# EAGLE library part 692221030100 (library USB_Wuerth_Elektronik_eiCan_Communication_Connectors_STENCIL)
WR-COM USB 3.0 HORIZONTAL TYPE B
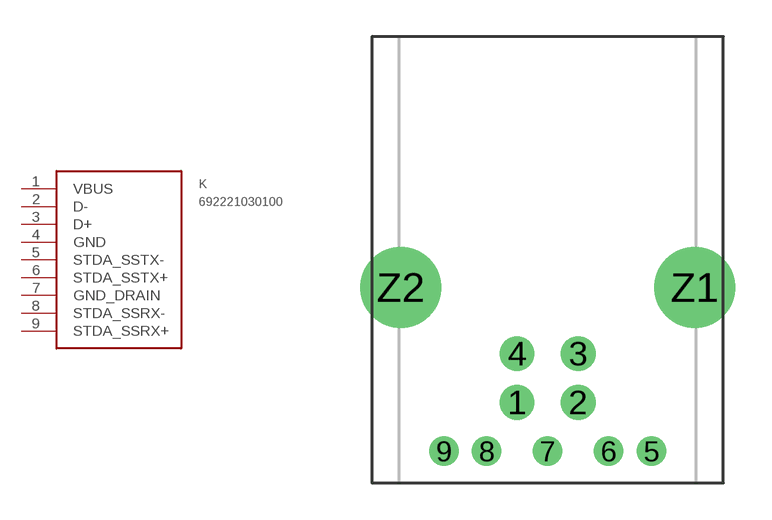
[diagram p24: symbol with the pads of 692221030100; footprint 692221030100]

Designator prefix K

## 692221030100  [692221030100]
1  VBUS
2  D-
3  D+
4  GND
5  STDA_SSTX-
6  STDA_SSTX+
7  GND_DRAIN
8  STDA_SSRX-
9  STDA_SSRX+

## Footprint 692221030100 (pad centres in mm)
WR-COM USB 3.0 HORIZONTAL TYPE B
drill 0.92: 1 -1.25,2; 2 1.25,2; 3 1.25,4; 4 -1.25,4
drill 0.7: 5 4.25,0; 6 2.5,0; 7 0,0; 8 -2.5,0; 9 -4.25,0
drill 2.3: Z1 6.02,6.71; Z2 -6.02,6.71